# EAGLE library part PINHD-1X16 (library pinhead)
PIN HEADER
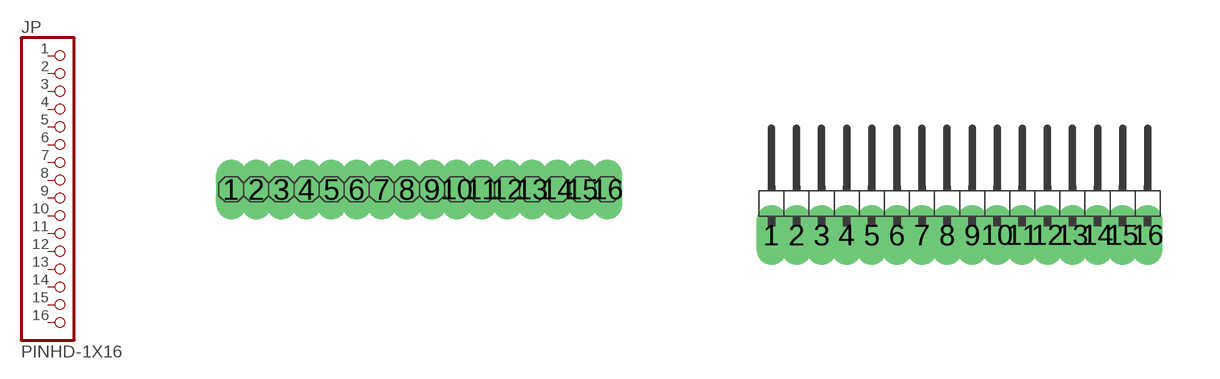
[diagram p10: symbol with the pads of 1X16; footprints 1X16, 1X16/90]

Designator prefix JP

## PINHD-1X16  [1X16]
1  1  pas
2  2  pas
3  3  pas
4  4  pas
5  5  pas
6  6  pas
7  7  pas
8  8  pas
9  9  pas
10  10  pas
11  11  pas
12  12  pas
13  13  pas
14  14  pas
15  15  pas
16  16  pas

## PINHD-1X16/90  [1X16/90]
Pads as for 1X16

## Footprint 1X16 (pad centres in mm)
PIN HEADER
drill 0.254 long: 1 -4.763,0; 2 -4.128,0; 3 -3.493,0; 4 -2.857,0; 5 -2.223,0; 6 -1.587,0; 7 -0.953,0; 8 -0.318,0; 9 0.318,0; 10 0.953,0; 11 1.587,0; 12 2.223,0; 13 2.857,0; 14 3.493,0; 15 4.128,0; 16 4.763,0

## Footprint 1X16/90 (pad centres in mm)
PIN HEADER
drill 0.254 long: 1 -4.763,-0.953; 2 -4.128,-0.953; 3 -3.493,-0.953; 4 -2.857,-0.953; 5 -2.223,-0.953; 6 -1.587,-0.953; 7 -0.953,-0.953; 8 -0.318,-0.953; 9 0.318,-0.953; 10 0.953,-0.953; 11 1.587,-0.953; 12 2.223,-0.953; 13 2.857,-0.953; 14 3.493,-0.953; 15 4.128,-0.953; 16 4.763,-0.953